# EAGLE library part SE2431L (library Pinoccio)
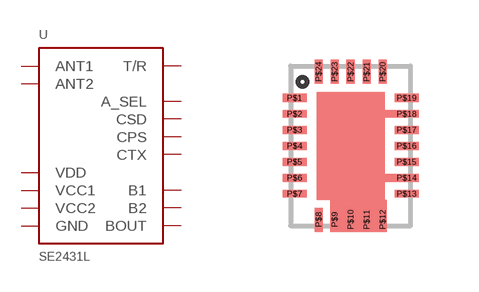
[diagram p28: symbol with the pads of SE2431L; footprint SE2431L]

Designator prefix -

## SE2431L  [SE2431L]
P$1  B2
P$2  B1
P$5  VDD
P$6  T/R
P$9  GND
P$10  GND
P$11  GND
P$12  GND
P$13  ANT2
P$14  GND
P$15  ANT1
P$16  A_SEL
P$18  GND
P$19  VCC2
P$20  CSD
P$21  CPS
P$22  VCC1
P$23  BOUT
P$24  CTX

## Footprint SE2431L (pad centres in mm)
smd 0.6 x 0.2: P$1 0.3,0.1; P$2 0.3,-0.3; P$3 0.3,-0.7; P$4 0.3,-1.1; P$5 0.3,-1.5; P$6 0.3,-1.9; P$7 0.3,-2.3; P$13 3.1,-2.3; P$14 3.1,-1.9; P$15 3.1,-1.5; P$16 3.1,-1.1; P$17 3.1,-0.7; P$18 3.1,-0.3; P$19 3.1,0.1
smd 0.2 x 0.6: P$8 0.9,-2.95; P$9 1.3,-2.95; P$10 1.7,-2.95; P$11 2.1,-2.95; P$12 2.5,-2.95; P$20 2.5,0.75; P$21 2.1,0.75; P$22 1.7,0.75; P$23 1.3,0.75; P$24 0.9,0.75